# Altium schematic symbol library 1888292-5.SchLib: 1 symbol
Pins are listed as number, name and electrical type; pins without a type are passive.

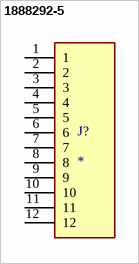
[diagram p0: symbol 1888292-5]

## 1888292-5
designator J?
MP: 1888292-5; Package: None; Price: None; Value: *; Availability: Unavailable
footprint TE_1888292-5
pins: 1, 2, 3, 4, 5, 6, 7, 8, 9, 10, 11, 12